# EAGLE library part NTE3074 (library partlibrary)
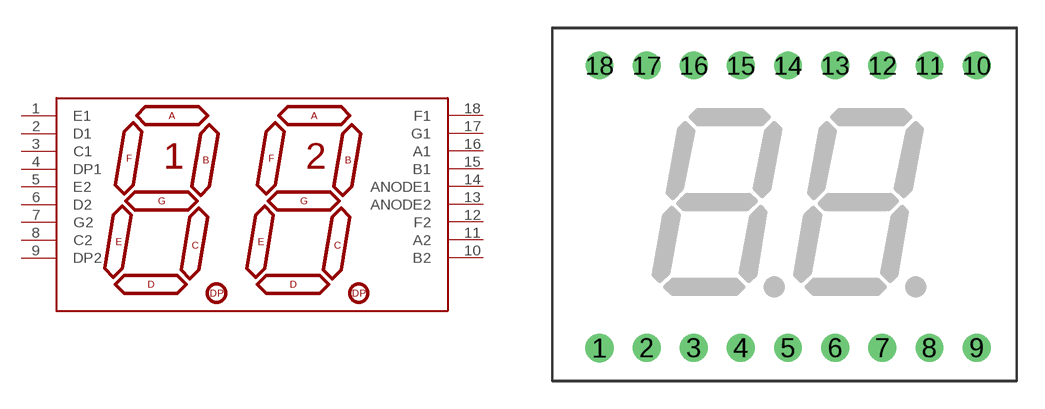
[diagram p3: symbol with the pads of NTE3074; footprint NTE3074]

Designator prefix -

## NTE3074  [NTE3074]
1  E1
2  D1
3  C1
4  DP1
5  E2
6  D2
7  G2
8  C2
9  DP2
10  B2
11  A2
12  F2
13  ANODE2
14  ANODE1
15  B1
16  A1
17  G1
18  F1

## Footprint NTE3074 (pad centres in mm)
Single Digit LED Numeric Display 10.16 mm Source: ROHM .. la-401dn.pdf
drill 0.9 pad 1.524: 1 2.54,1.778
drill 0.9 pad 1.5: 2 5.08,1.778; 3 7.62,1.778; 4 10.16,1.778; 5 12.7,1.778; 6 15.24,1.778; 7 17.78,1.778; 8 20.32,1.778; 9 22.86,1.778; 10 22.86,17.018; 11 20.32,17.018; 12 17.78,17.018; 13 15.24,17.018; 14 12.7,17.018; 15 10.16,17.018; 16 7.62,17.018; 17 5.08,17.018; 18 2.54,17.018